# EAGLE library part SI4431BDY-T1-E3 (library SI4431BDY-T1-E3)
SI4431BDY-T1-E3, P-channel MOSFET Transistor 5.7A 30V, 8-Pin SOIC Source: Datasheet <http://docs-asia.electrocomponents.com/webdocs/0ed1/0900766b80ed1eb7.pdf>
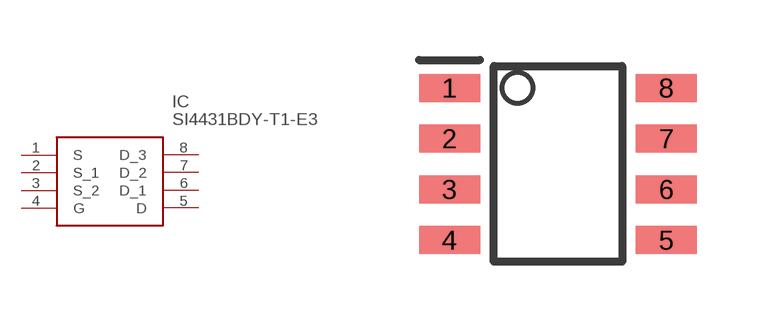
[diagram p0: symbol with the pads of SOIC127P600X175-8N; footprint SOIC127P600X175-8N]

Designator prefix IC

## SI4431BDY-T1-E3 (ALLIED_NUMBER: 70026219; ALLIED_PRICE-STOCK: http://www.alliedelec.com/siliconix-vishay-si4431bdy-t1-e3/70026219/; ARROW_PART_NUMBER: SI4431BDY-T1-E3; ARROW_PRICE-STOCK: https://www.arrow.com/en/products/si4431bdy-t1-e3/vishay; DESCRIPTION: SI4431BDY-T1-E3, P-channel MOSFET Transistor 5.7A 30V, 8-Pin SOIC; HEIGHT: 1.75mm; MANUFACTURER_NAME: Vishay; MANUFACTURER_PART_NUMBER: SI4431BDY-T1-E3; RS_PART_NUMBER: 7104714P; RS_PRICE-STOCK: http://uk.rs-online.com/web/p/products/7104714P)  [SOIC127P600X175-8N]
1  S
2  S_1
3  S_2
4  G
5  D
6  D_1
7  D_2
8  D_3

## Footprint SOIC127P600X175-8N (pad centres in mm)
8-Pin Narrow SOIC
smd 1.525 x 0.7: 1 -2.712,1.905; 2 -2.712,0.635; 3 -2.712,-0.635; 4 -2.712,-1.905; 5 2.712,-1.905; 6 2.712,-0.635; 7 2.712,0.635; 8 2.712,1.905